# Altium footprint library LED_3d2_1d6.PcbLib: 1 footprints
Each footprint in its own frame and in the unit in brackets; x right, y up, seen from the top. Pads: shape width x height; smd on the part's side, far side on the other; paste and mask are expansions set on the pad; w line width, h text height; cw(c..) or ccw(c..) is an arc to the next point about the centre after c.
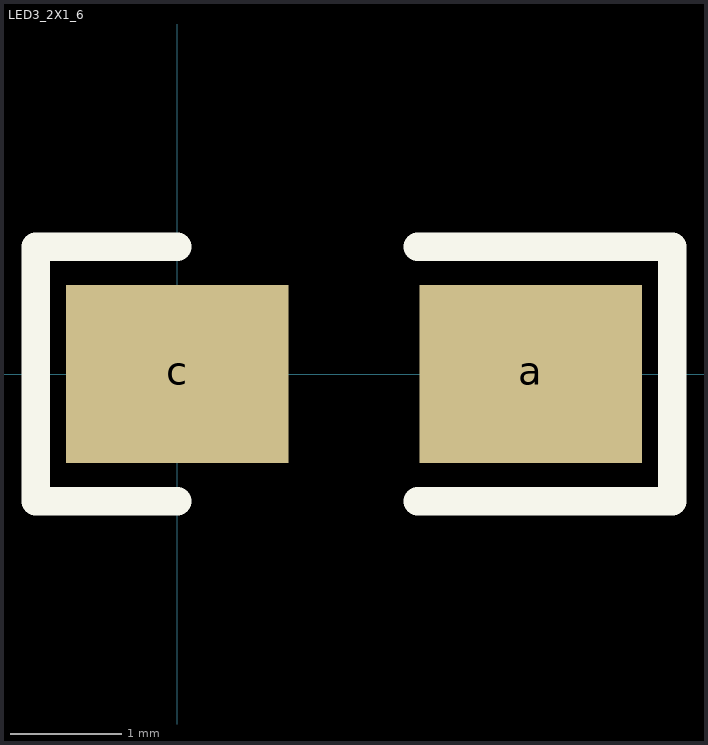
[diagram p0: the footprint, top view; thin cyan lines are the x and y axes]

## LED3_2X1_6 [mm]
pads (2):
  rect 2x1.6 smd: a(3.175,0) c(0,0)
Top Overlay:
  lines w0.254: 0,-1.143 -1.27,-1.143 -1.27,1.143 0,1.143 ; 2.159,-1.143 4.445,-1.143 4.445,1.143 2.159,1.143
3D body "User Library-LED 1206 BLUE.STEP": height 1.1, standoff 0, extent -0.076,-0.8 3.124,0.8